# Altium schematic symbol library Connector.SchLib: 8 symbols
Pins are listed as number, name and electrical type; pins without a type are passive.

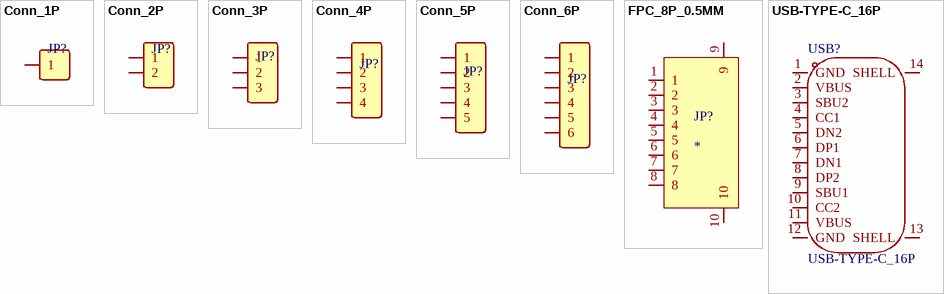
[diagram p0: symbols Conn_1P to USB-TYPE-C_16P]

## Conn_1P
designator JP?  (value not drawn)
Model: *; Package: *; Remark: *; Product ID: *; Brand: *
footprint CONN_2.54MM_1x1P_H
footprint CONN_2.54MM_1x1P_V
pins: 1

## Conn_2P
designator JP?  (value not drawn)
Brand: *; Model: *; Package: *; Remark: *; Product ID: *
footprint CONN_2.54MM_1x2P_H
footprint CONN_2.54MM_1x2P_V
footprint CONN_3.81MM_2P_V
footprint CONN_3.81MM_2P_H
pins: 1, 2

## Conn_3P
designator JP?  (value not drawn)
Brand: *; Model: *; Package: *; Remark: *; Product ID: *
footprint CONN_2.54MM_1x3P_H
footprint CONN_2.54MM_1x3P_V
footprint CONN_3.81MM_3P_H
footprint CONN_3.81MM_3P_V
pins: 1, 2, 3

## Conn_4P
designator JP?  (value not drawn)
Brand: *; Model: *; Package: *; Remark: *; Product ID: *
footprint CONN_2.54mm_1x4P_H
footprint CONN_2.54MM_1x4P_V
footprint CONN_3.81MM_4P_H
footprint CONN_3.81MM_4P_V
pins: 1, 2, 3, 4

## Conn_5P
designator JP?  (value not drawn)
Brand: *; Model: *; Package: *; Remark: *; Product ID: *
footprint CONN_2.00MM_5P_H_CABLE
pins: 1, 2, 3, 4, 5

## Conn_6P
designator JP?  (value not drawn)
Brand: *; Model: *; Package: *; Remark: *; Product ID: *
footprint CONN_2.54MM_1x6P_V
pins: 1, 2, 3, 4, 5, 6

## FPC_8P_0.5MM
designator JP?
FPC排线端子
footprint FPC_8P_0.5MM
pins: 1, 2, 3, 4, 5, 6, 7, 8, 9, 10

## USB-TYPE-C_16P
designator USB?
Brand: *; Remark: *; Package: *; Product ID: *; Model: USB-TYPE-C_16P
footprint USB-C-SMD_TYPE-C-16PIN
pins: 1 GND, 2 VBUS, 3 SBU2, 4 CC1, 5 DN2, 6 DP1, 7 DN1, 8 DP2, 9 SBU1, 10 CC2, 11 VBUS, 12 GND, 13 SHELL, 14 SHELL